# Altium schematic symbol library SCH - MCU - STM32 - ST MICROELECTRONICS STM32H742A(G-I)IX UFBGA169.SchLib: 1 symbol
Pins are listed as number, name and electrical type; pins without a type are passive.

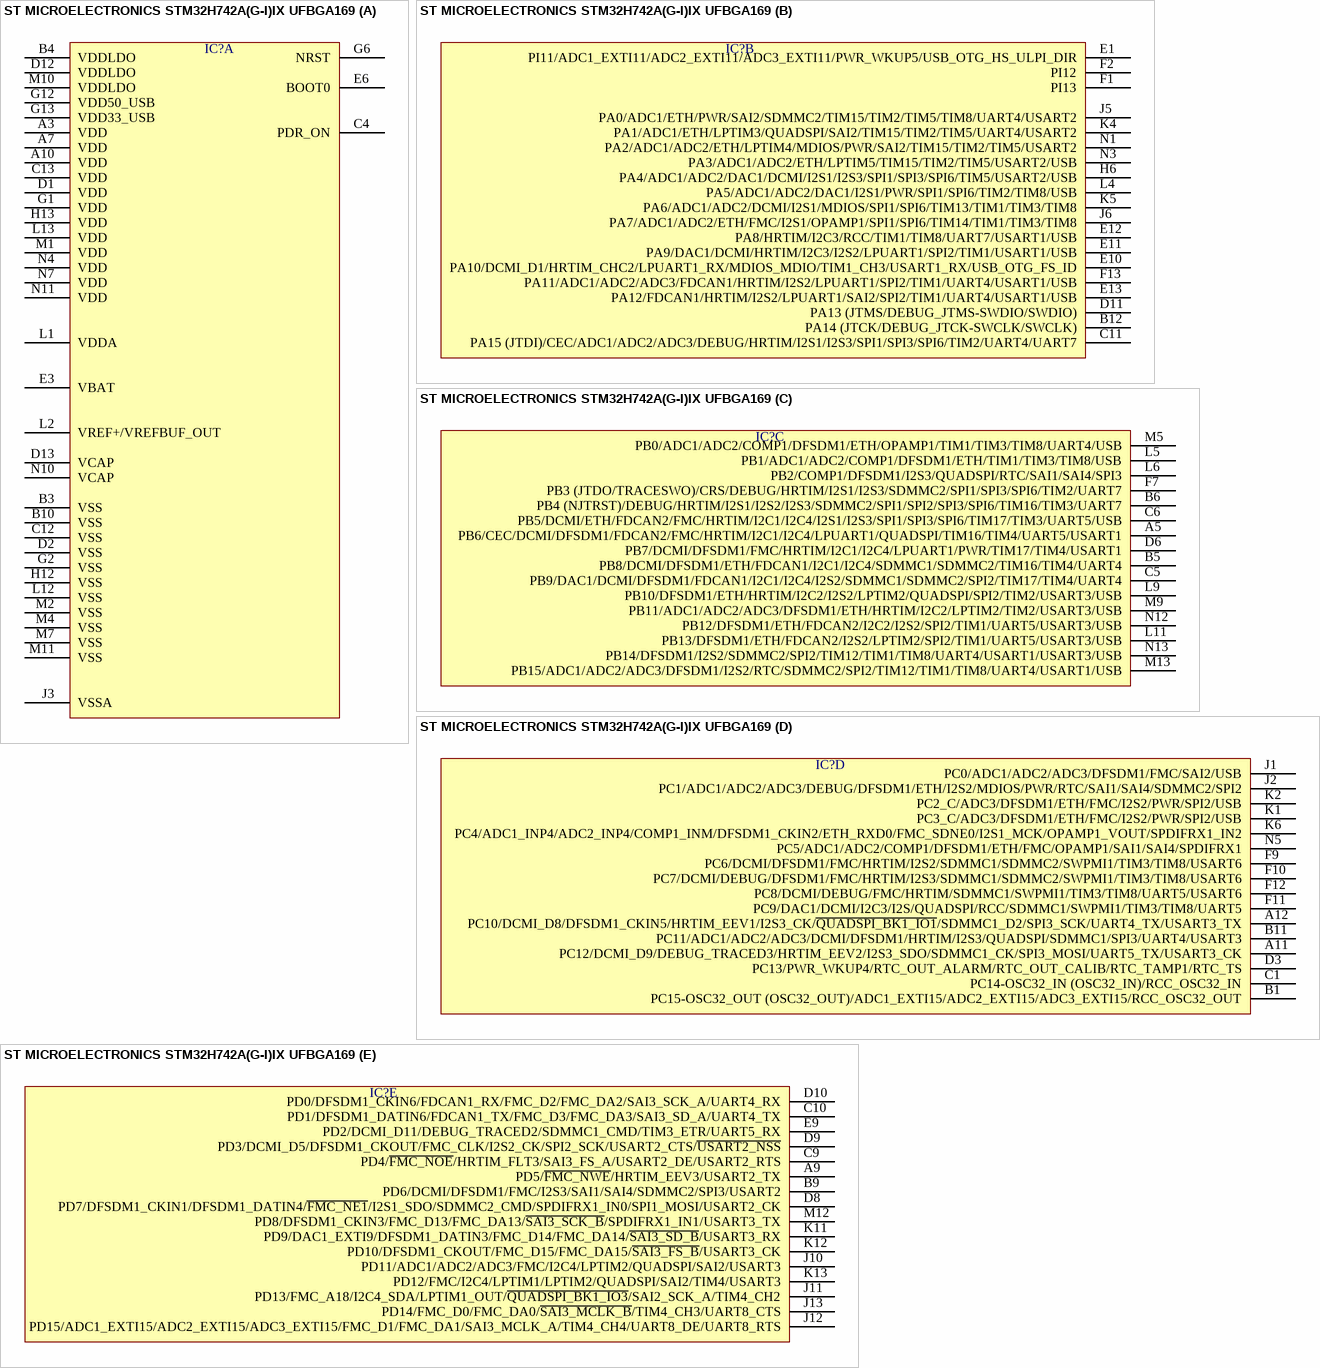
[diagram p0: symbol ST MICROELECTRONICS STM32H742A(G-I)IX UFBGA169]

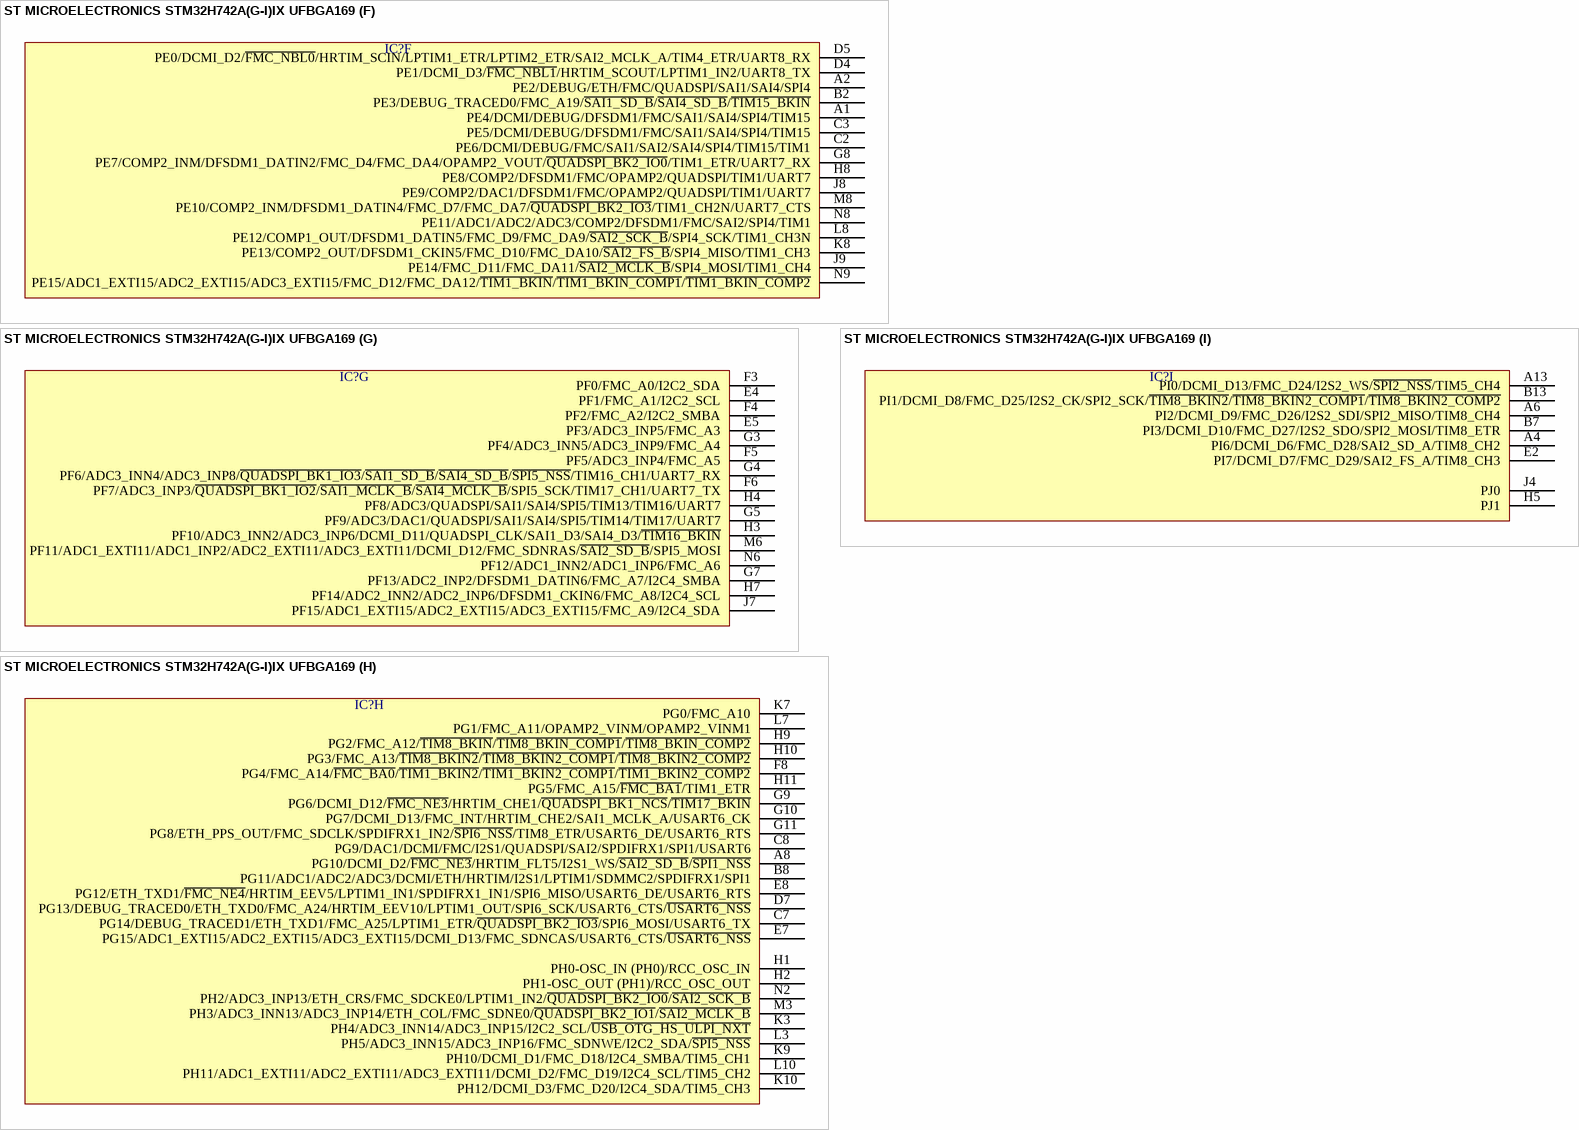
[diagram p1: symbol ST MICROELECTRONICS STM32H742A(G-I)IX UFBGA169]

## ST MICROELECTRONICS STM32H742A(G-I)IX UFBGA169
designator IC?  (value not drawn)
part A pins: A3 VDD, A7 VDD, A10 VDD, B3 VSS, B4 VDDLDO, B10 VSS, C4 PDR_ON, C12 VSS, C13 VDD, D1 VDD, D2 VSS, D12 VDDLDO, D13 VCAP, E3 VBAT, E6 BOOT0, G1 VDD, G2 VSS, G6 NRST, G12 VDD50_USB, G13 VDD33_USB, H12 VSS, H13 VDD, J3 VSSA, L1 VDDA, L2 VREF+/VREFBUF_OUT, L12 VSS, L13 VDD, M1 VDD, M2 VSS, M4 VSS, M7 VSS, M10 VDDLDO, M11 VSS, N4 VDD, N7 VDD, N10 VCAP, N11 VDD
part B pins: B12 PA14 (JTCK/DEBUG_JTCK-SWCLK/SWCLK), C11 PA15 (JTDI)/CEC/ADC1/ADC2/ADC3/DEBUG/HRTIM/I2S1/I2S3/SPI1/SPI3/SPI6/TIM2/UART4/UART7, D11 PA13 (JTMS/DEBUG_JTMS-SWDIO/SWDIO), E1 PI11/ADC1_EXTI11/ADC2_EXTI11/ADC3_EXTI11/PWR_WKUP5/USB_OTG_HS_ULPI_DIR, E10 PA10/DCMI_D1/HRTIM_CHC2/LPUART1_RX/MDIOS_MDIO/TIM1_CH3/USART1_RX/USB_OTG_FS_ID, E11 PA9/DAC1/DCMI/HRTIM/I2C3/I2S2/LPUART1/SPI2/TIM1/USART1/USB, E12 PA8/HRTIM/I2C3/RCC/TIM1/TIM8/UART7/USART1/USB, E13 PA12/FDCAN1/HRTIM/I2S2/LPUART1/SAI2/SPI2/TIM1/UART4/USART1/USB, F1 PI13, F2 PI12, F13 PA11/ADC1/ADC2/ADC3/FDCAN1/HRTIM/I2S2/LPUART1/SPI2/TIM1/UART4/USART1/USB, H6 PA4/ADC1/ADC2/DAC1/DCMI/I2S1/I2S3/SPI1/SPI3/SPI6/TIM5/USART2/USB, J5 PA0/ADC1/ETH/PWR/SAI2/SDMMC2/TIM15/TIM2/TIM5/TIM8/UART4/USART2, J6 PA7/ADC1/ADC2/ETH/FMC/I2S1/OPAMP1/SPI1/SPI6/TIM14/TIM1/TIM3/TIM8, K4 PA1/ADC1/ETH/LPTIM3/QUADSPI/SAI2/TIM15/TIM2/TIM5/UART4/USART2, K5 PA6/ADC1/ADC2/DCMI/I2S1/MDIOS/SPI1/SPI6/TIM13/TIM1/TIM3/TIM8, L4 PA5/ADC1/ADC2/DAC1/I2S1/PWR/SPI1/SPI6/TIM2/TIM8/USB, N1 PA2/ADC1/ADC2/ETH/LPTIM4/MDIOS/PWR/SAI2/TIM15/TIM2/TIM5/USART2, N3 PA3/ADC1/ADC2/ETH/LPTIM5/TIM15/TIM2/TIM5/USART2/USB
part C pins: A5 PB6/CEC/DCMI/DFSDM1/FDCAN2/FMC/HRTIM/I2C1/I2C4/LPUART1/QUADSPI/TIM16/TIM4/UART5/USART1, B5 PB8/DCMI/DFSDM1/ETH/FDCAN1/I2C1/I2C4/SDMMC1/SDMMC2/TIM16/TIM4/UART4, B6 PB4 (NJTRST)/DEBUG/HRTIM/I2S1/I2S2/I2S3/SDMMC2/SPI1/SPI2/SPI3/SPI6/TIM16/TIM3/UART7, C5 PB9/DAC1/DCMI/DFSDM1/FDCAN1/I2C1/I2C4/I2S2/SDMMC1/SDMMC2/SPI2/TIM17/TIM4/UART4, C6 PB5/DCMI/ETH/FDCAN2/FMC/HRTIM/I2C1/I2C4/I2S1/I2S3/SPI1/SPI3/SPI6/TIM17/TIM3/UART5/USB, D6 PB7/DCMI/DFSDM1/FMC/HRTIM/I2C1/I2C4/LPUART1/PWR/TIM17/TIM4/USART1, F7 PB3 (JTDO/TRACESWO)/CRS/DEBUG/HRTIM/I2S1/I2S3/SDMMC2/SPI1/SPI3/SPI6/TIM2/UART7, L5 PB1/ADC1/ADC2/COMP1/DFSDM1/ETH/TIM1/TIM3/TIM8/USB, L6 PB2/COMP1/DFSDM1/I2S3/QUADSPI/RTC/SAI1/SAI4/SPI3, L9 PB10/DFSDM1/ETH/HRTIM/I2C2/I2S2/LPTIM2/QUADSPI/SPI2/TIM2/USART3/USB, L11 PB13/DFSDM1/ETH/FDCAN2/I2S2/LPTIM2/SPI2/TIM1/UART5/USART3/USB, M5 PB0/ADC1/ADC2/COMP1/DFSDM1/ETH/OPAMP1/TIM1/TIM3/TIM8/UART4/USB, M9 PB11/ADC1/ADC2/ADC3/DFSDM1/ETH/HRTIM/I2C2/LPTIM2/TIM2/USART3/USB, M13 PB15/ADC1/ADC2/ADC3/DFSDM1/I2S2/RTC/SDMMC2/SPI2/TIM12/TIM1/TIM8/UART4/USART1/USB, N12 PB12/DFSDM1/ETH/FDCAN2/I2C2/I2S2/SPI2/TIM1/UART5/USART3/USB, N13 PB14/DFSDM1/I2S2/SDMMC2/SPI2/TIM12/TIM1/TIM8/UART4/USART1/USART3/USB
part D pins: A11 PC12/DCMI_D9/DEBUG_TRACED3/HRTIM_EEV2/I2S3_SDO/SDMMC1_CK/SPI3_MOSI/UART5_TX/USART3_CK, A12 PC10/DCMI_D8/DFSDM1_CKIN5/HRTIM_EEV1/I2S3_CK/~{QUADSPI_BK1_IO1}/SDMMC1_D2/SPI3_SCK/UART4_TX/USART3_TX, B1 PC15-OSC32_OUT (OSC32_OUT)/ADC1_EXTI15/ADC2_EXTI15/ADC3_EXTI15/RCC_OSC32_OUT, B11 PC11/ADC1/ADC2/ADC3/DCMI/DFSDM1/HRTIM/I2S3/QUADSPI/SDMMC1/SPI3/UART4/USART3, C1 PC14-OSC32_IN (OSC32_IN)/RCC_OSC32_IN, D3 PC13/PWR_WKUP4/RTC_OUT_ALARM/RTC_OUT_CALIB/RTC_TAMP1/RTC_TS, F9 PC6/DCMI/DFSDM1/FMC/HRTIM/I2S2/SDMMC1/SDMMC2/SWPMI1/TIM3/TIM8/USART6, F10 PC7/DCMI/DEBUG/DFSDM1/FMC/HRTIM/I2S3/SDMMC1/SDMMC2/SWPMI1/TIM3/TIM8/USART6, F11 PC9/DAC1/DCMI/I2C3/I2S/QUADSPI/RCC/SDMMC1/SWPMI1/TIM3/TIM8/UART5, F12 PC8/DCMI/DEBUG/FMC/HRTIM/SDMMC1/SWPMI1/TIM3/TIM8/UART5/USART6, J1 PC0/ADC1/ADC2/ADC3/DFSDM1/FMC/SAI2/USB, J2 PC1/ADC1/ADC2/ADC3/DEBUG/DFSDM1/ETH/I2S2/MDIOS/PWR/RTC/SAI1/SAI4/SDMMC2/SPI2, K1 PC3_C/ADC3/DFSDM1/ETH/FMC/I2S2/PWR/SPI2/USB, K2 PC2_C/ADC3/DFSDM1/ETH/FMC/I2S2/PWR/SPI2/USB, K6 PC4/ADC1_INP4/ADC2_INP4/COMP1_INM/DFSDM1_CKIN2/ETH_RXD0/FMC_SDNE0/I2S1_MCK/OPAMP1_VOUT/SPDIFRX1_IN2, N5 PC5/ADC1/ADC2/COMP1/DFSDM1/ETH/FMC/OPAMP1/SAI1/SAI4/SPDIFRX1
part E pins: A9 PD5/~{FMC_NWE}/HRTIM_EEV3/USART2_TX, B9 PD6/DCMI/DFSDM1/FMC/I2S3/SAI1/SAI4/SDMMC2/SPI3/USART2, C9 PD4/~{FMC_NOE}/HRTIM_FLT3/SAI3_FS_A/USART2_DE/USART2_RTS, C10 PD1/DFSDM1_DATIN6/FDCAN1_TX/FMC_D3/FMC_DA3/SAI3_SD_A/UART4_TX, D8 PD7/DFSDM1_CKIN1/DFSDM1_DATIN4/~{FMC_NE1}/I2S1_SDO/SDMMC2_CMD/SPDIFRX1_IN0/SPI1_MOSI/USART2_CK, D9 PD3/DCMI_D5/DFSDM1_CKOUT/FMC_CLK/I2S2_CK/SPI2_SCK/USART2_CTS/~{USART2_NSS}, D10 PD0/DFSDM1_CKIN6/FDCAN1_RX/FMC_D2/FMC_DA2/SAI3_SCK_A/UART4_RX, E9 PD2/DCMI_D11/DEBUG_TRACED2/SDMMC1_CMD/TIM3_ETR/UART5_RX, J10 PD11/ADC1/ADC2/ADC3/FMC/I2C4/LPTIM2/QUADSPI/SAI2/USART3, J11 PD13/FMC_A18/I2C4_SDA/LPTIM1_OUT/~{QUADSPI_BK1_IO3}/SAI2_SCK_A/TIM4_CH2, J12 PD15/ADC1_EXTI15/ADC2_EXTI15/ADC3_EXTI15/FMC_D1/FMC_DA1/SAI3_MCLK_A/TIM4_CH4/UART8_DE/UART8_RTS, J13 PD14/FMC_D0/FMC_DA0/~{SAI3_MCLK_B}/TIM4_CH3/UART8_CTS, K11 PD9/DAC1_EXTI9/DFSDM1_DATIN3/FMC_D14/FMC_DA14/~{SAI3_SD_B}/USART3_RX, K12 PD10/DFSDM1_CKOUT/FMC_D15/FMC_DA15/~{SAI3_FS_B}/USART3_CK, K13 PD12/FMC/I2C4/LPTIM1/LPTIM2/QUADSPI/SAI2/TIM4/USART3, M12 PD8/DFSDM1_CKIN3/FMC_D13/FMC_DA13/~{SAI3_SCK_B}/SPDIFRX1_IN1/USART3_TX
part F pins: A1 PE4/DCMI/DEBUG/DFSDM1/FMC/SAI1/SAI4/SPI4/TIM15, A2 PE2/DEBUG/ETH/FMC/QUADSPI/SAI1/SAI4/SPI4, B2 PE3/DEBUG_TRACED0/FMC_A19/~{SAI1_SD_B}/~{SAI4_SD_B}/~{TIM15_BKIN}, C2 PE6/DCMI/DEBUG/FMC/SAI1/SAI2/SAI4/SPI4/TIM15/TIM1, C3 PE5/DCMI/DEBUG/DFSDM1/FMC/SAI1/SAI4/SPI4/TIM15, D4 PE1/DCMI_D3/~{FMC_NBL1}/HRTIM_SCOUT/LPTIM1_IN2/UART8_TX, D5 PE0/DCMI_D2/~{FMC_NBL0}/HRTIM_SCIN/LPTIM1_ETR/LPTIM2_ETR/SAI2_MCLK_A/TIM4_ETR/UART8_RX, G8 PE7/COMP2_INM/DFSDM1_DATIN2/FMC_D4/FMC_DA4/OPAMP2_VOUT/~{QUADSPI_BK2_IO0}/TIM1_ETR/UART7_RX, H8 PE8/COMP2/DFSDM1/FMC/OPAMP2/QUADSPI/TIM1/UART7, J8 PE9/COMP2/DAC1/DFSDM1/FMC/OPAMP2/QUADSPI/TIM1/UART7, J9 PE14/FMC_D11/FMC_DA11/~{SAI2_MCLK_B}/SPI4_MOSI/TIM1_CH4, K8 PE13/COMP2_OUT/DFSDM1_CKIN5/FMC_D10/FMC_DA10/~{SAI2_FS_B}/SPI4_MISO/TIM1_CH3, L8 PE12/COMP1_OUT/DFSDM1_DATIN5/FMC_D9/FMC_DA9/~{SAI2_SCK_B}/SPI4_SCK/TIM1_CH3N, M8 PE10/COMP2_INM/DFSDM1_DATIN4/FMC_D7/FMC_DA7/~{QUADSPI_BK2_IO3}/TIM1_CH2N/UART7_CTS, N8 PE11/ADC1/ADC2/ADC3/COMP2/DFSDM1/FMC/SAI2/SPI4/TIM1, N9 PE15/ADC1_EXTI15/ADC2_EXTI15/ADC3_EXTI15/FMC_D12/FMC_DA12/~{TIM1_BKIN}/~{TIM1_BKIN_COMP1}/~{TIM1_BKIN_COMP2}
part G pins: E4 PF1/FMC_A1/I2C2_SCL, E5 PF3/ADC3_INP5/FMC_A3, F3 PF0/FMC_A0/I2C2_SDA, F4 PF2/FMC_A2/I2C2_SMBA, F5 PF5/ADC3_INP4/FMC_A5, F6 PF7/ADC3_INP3/~{QUADSPI_BK1_IO2}/~{SAI1_MCLK_B}/~{SAI4_MCLK_B}/SPI5_SCK/TIM17_CH1/UART7_TX, G3 PF4/ADC3_INN5/ADC3_INP9/FMC_A4, G4 PF6/ADC3_INN4/ADC3_INP8/~{QUADSPI_BK1_IO3}/~{SAI1_SD_B}/~{SAI4_SD_B}/~{SPI5_NSS}/TIM16_CH1/UART7_RX, G5 PF9/ADC3/DAC1/QUADSPI/SAI1/SAI4/SPI5/TIM14/TIM17/UART7, G7 PF13/ADC2_INP2/DFSDM1_DATIN6/FMC_A7/I2C4_SMBA, H3 PF10/ADC3_INN2/ADC3_INP6/DCMI_D11/QUADSPI_CLK/SAI1_D3/SAI4_D3/~{TIM16_BKIN}, H4 PF8/ADC3/QUADSPI/SAI1/SAI4/SPI5/TIM13/TIM16/UART7, H7 PF14/ADC2_INN2/ADC2_INP6/DFSDM1_CKIN6/FMC_A8/I2C4_SCL, J7 PF15/ADC1_EXTI15/ADC2_EXTI15/ADC3_EXTI15/FMC_A9/I2C4_SDA, M6 PF11/ADC1_EXTI11/ADC1_INP2/ADC2_EXTI11/ADC3_EXTI11/DCMI_D12/FMC_SDNRAS/~{SAI2_SD_B}/SPI5_MOSI, N6 PF12/ADC1_INN2/ADC1_INP6/FMC_A6
part H pins: A8 PG10/DCMI_D2/~{FMC_NE3}/HRTIM_FLT5/I2S1_WS/~{SAI2_SD_B}/~{SPI1_NSS}, B8 PG11/ADC1/ADC2/ADC3/DCMI/ETH/HRTIM/I2S1/LPTIM1/SDMMC2/SPDIFRX1/SPI1, C7 PG14/DEBUG_TRACED1/ETH_TXD1/FMC_A25/LPTIM1_ETR/~{QUADSPI_BK2_IO3}/SPI6_MOSI/USART6_TX, C8 PG9/DAC1/DCMI/FMC/I2S1/QUADSPI/SAI2/SPDIFRX1/SPI1/USART6, D7 PG13/DEBUG_TRACED0/ETH_TXD0/FMC_A24/HRTIM_EEV10/LPTIM1_OUT/SPI6_SCK/USART6_CTS/~{USART6_NSS}, E7 PG15/ADC1_EXTI15/ADC2_EXTI15/ADC3_EXTI15/DCMI_D13/FMC_SDNCAS/USART6_CTS/~{USART6_NSS}, E8 PG12/ETH_TXD1/~{FMC_NE4}/HRTIM_EEV5/LPTIM1_IN1/SPDIFRX1_IN1/SPI6_MISO/USART6_DE/USART6_RTS, F8 PG4/FMC_A14/~{FMC_BA0}/~{TIM1_BKIN2}/~{TIM1_BKIN2_COMP1}/~{TIM1_BKIN2_COMP2}, G9 PG6/DCMI_D12/~{FMC_NE3}/HRTIM_CHE1/~{QUADSPI_BK1_NCS}/~{TIM17_BKIN}, G10 PG7/DCMI_D13/FMC_INT/HRTIM_CHE2/SAI1_MCLK_A/USART6_CK, G11 PG8/ETH_PPS_OUT/FMC_SDCLK/SPDIFRX1_IN2/~{SPI6_NSS}/TIM8_ETR/USART6_DE/USART6_RTS, H1 PH0-OSC_IN (PH0)/RCC_OSC_IN, H2 PH1-OSC_OUT (PH1)/RCC_OSC_OUT, H9 PG2/FMC_A12/~{TIM8_BKIN}/~{TIM8_BKIN_COMP1}/~{TIM8_BKIN_COMP2}, H10 PG3/FMC_A13/~{TIM8_BKIN2}/~{TIM8_BKIN2_COMP1}/~{TIM8_BKIN2_COMP2}, H11 PG5/FMC_A15/~{FMC_BA1}/TIM1_ETR, K3 PH4/ADC3_INN14/ADC3_INP15/I2C2_SCL/~{USB_OTG_HS_ULPI_NXT}, K7 PG0/FMC_A10, K9 PH10/DCMI_D1/FMC_D18/I2C4_SMBA/TIM5_CH1, K10 PH12/DCMI_D3/FMC_D20/I2C4_SDA/TIM5_CH3, L3 PH5/ADC3_INN15/ADC3_INP16/FMC_SDNWE/I2C2_SDA/~{SPI5_NSS}, L7 PG1/FMC_A11/OPAMP2_VINM/OPAMP2_VINM1, L10 PH11/ADC1_EXTI11/ADC2_EXTI11/ADC3_EXTI11/DCMI_D2/FMC_D19/I2C4_SCL/TIM5_CH2, M3 PH3/ADC3_INN13/ADC3_INP14/ETH_COL/FMC_SDNE0/~{QUADSPI_BK2_IO1}/~{SAI2_MCLK_B}, N2 PH2/ADC3_INP13/ETH_CRS/FMC_SDCKE0/LPTIM1_IN2/~{QUADSPI_BK2_IO0}/~{SAI2_SCK_B}
part I pins: A4 PI6/DCMI_D6/FMC_D28/SAI2_SD_A/TIM8_CH2, A6 PI2/DCMI_D9/FMC_D26/I2S2_SDI/SPI2_MISO/TIM8_CH4, A13 PI0/DCMI_D13/FMC_D24/I2S2_WS/~{SPI2_NSS}/TIM5_CH4, B7 PI3/DCMI_D10/FMC_D27/I2S2_SDO/SPI2_MOSI/TIM8_ETR, B13 PI1/DCMI_D8/FMC_D25/I2S2_CK/SPI2_SCK/~{TIM8_BKIN2}/~{TIM8_BKIN2_COMP1}/~{TIM8_BKIN2_COMP2}, E2 PI7/DCMI_D7/FMC_D29/SAI2_FS_A/TIM8_CH3, H5 PJ1, J4 PJ0